# Altium schematic symbol library Mechanical_Old.SchLib: 117 symbols
Pins are listed as number, name and electrical type; pins without a type are passive.

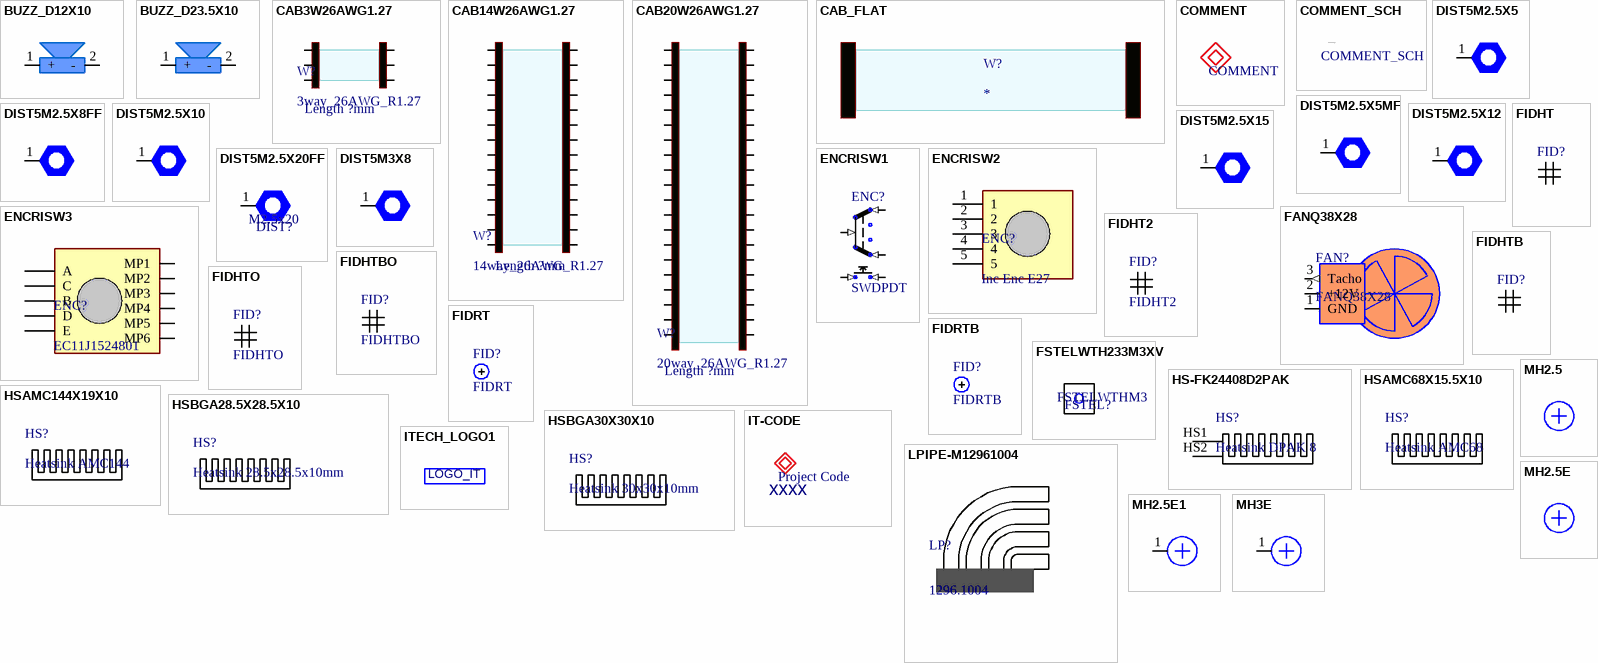
[diagram p0: symbols BUZZ_D12X10 to MH3E]

## BUZZ_D12X10
designator SPK?, comment BUZZER  (value not drawn)
Buzzer D12x10mm 5V; Manufacturer: Multicomp, Farnell; Manufacturer No: EMX-7T05SP, 1193323; Comment2: 5V, 30mA, 2.3KHz 85dB; Sort: 850; Tech: THTH; Package: BUZZ D12X10mm; Price: 1.8
footprint BUZZ12X10 (Buzzer D12x10mm)
pins: 1 +, 2 -

## BUZZ_D23.5X10
designator SPK?, comment BUZZER  (value not drawn)  (no BOM)
Signal Pad; Manufacturer: PRO SIGNAL, Farnell; Manufacturer No: ABI-003-RC, 1107581; Comment2: 12V, 15mA, 3.4KHz 95dB; Sort: 850; Tech: THTH; Package: BUZZ D23.5X10mm; Price: 0
footprint BUZZ23.5X10 (Buzzer D23.5x10mm)
pins: 1 +, 2 -

## CAB3W26AWG1.27
designator W?, comment 3way_26AWG_R1.27  Comment2: Length ?mm
Flat Cable 3Ways 26AWG R1.27; Sort: 610
pins: 1, 1, 2, 2, 3, 3

## CAB14W26AWG1.27
designator W?, comment 14way_26AWG_R1.27  Comment2: Length ?mm
Flat Cable 14Ways 26AWG R1.27; Sort: 610
pins: 1, 1, 2, 2, 3, 3, 4, 4, 5, 5, 6, 6, 7, 7, 8, 8, 9, 9, 10, 10, 11, 11, 12, 12, 13, 13, 14, 14

## CAB20W26AWG1.27
designator W?, comment 20way_26AWG_R1.27  Comment2: Length ?mm
Flat Cable 20Ways 26AWG R1.27; Sort: 610
pins: 1, 1, 2, 2, 3, 3, 4, 4, 5, 5, 6, 6, 7, 7, 8, 8, 9, 9, 10, 10, 11, 11, 12, 12, 13, 13, 14, 14, 15, 15, 16, 16, 17, 17, 18, 18, 19, 19, 20, 20

## CAB_FLAT
designator W?
Flat Cable; Sort: 610

## COMMENT
designator COMM?  (net tie)
Sort: 0; Tech: MECH; Price: 0

## COMMENT_SCH
designator COMM?  (no BOM)
Sort: 0; Tech: MECH; Price: 0

## DIST5M2.5X5
designator DIST?, comment M2.5X5mm  (value not drawn)
Hex Standoff SW5mm M2.5x5mm brass nickeled; Sort: 800; Tech: MECH; Price: 0
footprint DIST5XM2.5NPL (Standoff SW5mm M2.5 nonplated hole)
footprint DIST5XM2.5PL (Standoff SW5mm M2.5 plated hole)
footprint DIST5XM2.5 (Standoff SW5mm M2.5 no hole)
pins: 1

## DIST5M2.5X5MF
designator DIST?, comment M2.5X5mm MF  (value not drawn)
Hex Standoff SW5mm M2.5x5mm brass nickeled; Sort: 800; Tech: MECH; Price: 0
footprint DIST5XM2.5NPL (Standoff SW5mm M2.5 nonplated hole)
footprint DIST5XM2.5PL (Standoff SW5mm M2.5 plated hole)
footprint DIST5XM2.5 (Standoff SW5mm M2.5 no hole)
pins: 1

## DIST5M2.5X8FF
designator DIST?, comment M2.5X8mm FF  (value not drawn)
Hex Standoff SW5mm M2.5x8mm brass nickeled; Manufacturer: Burklin; Manufacturer No: 18H2422; Comment2: Female-Female; Sort: 800; Tech: MECH; Package: Dist M2.5x8mm; Price: 0
footprint DIST8XM2.5NPL (Standoff SW5mm M2.5 nonplated hole)
footprint DIST8XM2.5PL (Standoff SW5mm M2.5 plated hole)
footprint DIST8XM2.5 (Standoff SW5mm M2.5 no hole)
pins: 1

## DIST5M2.5X10
designator DIST?, comment M2.5X10mm  (value not drawn)
Hex Standoff SW5mm M2.5x10mm brass nickeled; Sort: 800; Tech: MECH; Price: 0
footprint DIST10XM2.5NPL (Standoff SW5mm M2.5 nonplated hole)
footprint DIST10XM2.5PL (Standoff SW5mm M2.5 plated hole)
footprint DIST10XM2.5 (Standoff SW5mm M2.5 no hole)
pins: 1

## DIST5M2.5X12
designator DIST?, comment M2.5X12mm  (value not drawn)
Hex Standoff SW5mm M2.5x10mm brass nickeled; Manufacturer: Burklin; Manufacturer No: 18H2426; Comment2: Female-Female; Sort: 800; Tech: MECH; Price: 0
footprint DIST10XM2.5NPL (Standoff SW5mm M2.5 nonplated hole)
footprint DIST10XM2.5PL (Standoff SW5mm M2.5 plated hole)
footprint DIST10XM2.5 (Standoff SW5mm M2.5 no hole)
pins: 1

## DIST5M2.5X15
designator DIST?, comment M2.5X15mm  (value not drawn)
Hex Standoff SW5mm M2.5x15mm brass nickeled; Manufacturer: Burklin; Manufacturer No: 18H2430; Comment2: Female-Female; Sort: 800; Tech: MECH; Price: 0
footprint DIST15XM2.5NPL (Standoff SW5mm M2.5 nonplated hole)
footprint DIST15XM2.5PL (Standoff SW5mm M2.5 plated hole)
footprint DIST15XM2.5 (Standoff SW5mm M2.5 no hole)
pins: 1

## DIST5M2.5X20FF
designator DIST?, comment M2.5x20
Hex standoff SW5mm M2.5x20mm brass nickeled fem-fem; Sort: 800; Tech: MECH; Package: Dist M2.5X20mm SW5 FF; Price: 0
footprint DIST20XM2.5 (Standoff SW5mm M2.5 no hole)
footprint DIST20XM2.5NPL (Standoff SW5mm M2.5 nonplated hole)
footprint DIST20XM2.5PL (Standoff SW5mm M2.5 plated hole)
pins: 1

## DIST5M3X8
designator DIST?, comment M3X8mm  (value not drawn)
Hex Standoff SW5.5mm M3x8mm brass nickeled; Sort: 800; Tech: MECH; Price: 0
footprint DIST8XM2.5NPL (Standoff SW5mm M2.5 nonplated hole)
footprint DIST8XM2.5PL (Standoff SW5mm M2.5 plated hole)
footprint DIST8XM3 (Standoff SW5.5mm M3 no hole)
pins: 1

## ENCRISW1
designator ENC?, comment SWDPDT
Switch short trip normaly open PCB vertical 6x6x3.5mm; Sort: 810; Tech: THDM; Price: 0
pins: 1 (in), 2 (in), 3 (in), 4 (in), 5 (in)

## ENCRISW2
designator ENC?, comment Inc Enc E27
Incremental Encoder Type E27 Vertical; Manufacturer: ELMA; Manufacturer No: E27-0-21101AL001; Sort: 800; Tech: MECH; Price: 0
footprint ENCRISW2 (Incermental Encoder Type E27)
pins: 1, 2, 3, 4, 5

## ENCRISW3
designator ENC?, comment EC11J1524801
Incremental Encoder Vertical; Manufacturer: Alps; Comment2: 30Ppr 30 Dent 0.5mmSW; Sort: 800; Tech: MECH; Manufacturer No: EC11J1524801; Package: Encoder SMD 12X18; Price: 0
footprint ENCRISW3 (Alps EC11J1524801 smd)
pins: A, B, C, D, E, MP1, MP2, MP3, MP4, MP5, MP6

## FANQ38X28
designator FAN?
Fan 38x38x28mm with tacho output; Manufacturer No: PMD1238PQB2-A; Comment2: 12V, 2.3W tacho; Sort: 800; Tech: THDM; Package: FANQ38X28; Price: 0
footprint FANQ38X28VPCB (FAN 38x38x28mm vertical mounted on pcb)
pins: 1 GND (power), 2 +12V (power), 3 Tacho (out)

## FIDHT
designator FID?  (net tie)
Fiducial top & bottom hash; Sort: 800; Tech: MECH; Price: 0
footprint FIDHT (Fiducial TOP hash)

## FIDHT2
designator FID?  (net tie)
Fiducial top & bottom hash; Sort: 800; Tech: MECH; Price: 0
footprint FIDHT2 (Fiducial TOP hash open mask small)

## FIDHTB
designator FID?  (net tie)
Fiducial top & bottom hash; Sort: 800; Tech: MECH; Price: 0
footprint FIDHTB (Fiducial TOP & BOTTOM hash)

## FIDHTBO
designator FID?  (net tie)
Fiducial top & bottom hash open mask; Sort: 800; Tech: MECH; Price: 0
footprint FIDHTBO (Fiducial TOP & BOTTOM hash open mask)

## FIDHTO
designator FID?  (net tie)
Fiducial top hash open mask; Sort: 800; Tech: MECH; Price: 0
footprint FIDHTO (Fiducial TOP hash open mask)

## FIDRT
designator FID?  (net tie)
Fiducial top round open mask; Sort: 800; Tech: MECH; Price: 0
footprint FIDRT50 (Fiducial TOP round 50mil)

## FIDRTB
designator FID?  (net tie)
Fiducial top & bottom round open mask; Sort: 800; Tech: MECH; Price: 0
footprint FIDRTB50 (Fiducial Top & Bottom round 50mil)

## FSTELWTH233M3XV
designator FSTEL?, comment FSTELWTHM3
Fastenig elements with thread 233 M3 vertical; Manufacturer: Burklin; Manufacturer No: 17H917; Comment2: A5.7 B5.9 H5.0 L 9.0; Sort: 800; Tech: MECH; Price: 0
footprint FSTELWTH233M3X2 (Fastening element with thread 233 M3)

## HS-FK24408D2PAK
designator HS?, comment Heatsink DPAK 8
Heatsink SMD for DPAK; Manufacturer: Fischer elektronik; Manufacturer No: FK244 08 D2 PAK; Comment2: 144x19x12mm Al; Sort: 0; Tech: MECH; Package: HS SMD 26x8x10mm R17.8mm; Price: 0
footprint HS-FK24408D2PAK (Heatsink DPAK 26x8x10mm R17.8mm)
pins: HS1, HS2

## HSAMC68X15.5X10
designator HS?, comment Heatsink AMC68
Heatsink 68x15.5x10mm Al black anodized; Manufacturer: Mali Elektronika; Manufacturer No: ITcode = 1336; Comment2: 68x15.5x10mm  Al - black anodized; Sort: 0; Tech: MECH; Code: 1336; Package: Heatsink 144x19x10; Price: 0
footprint HSAMC68X15.5X10 (Heatsink AMC 68x15.5x10mm Al profile)

## HSAMC144X19X10
designator HS?, comment Heatsink AMC144
Heatsink 144x19x10mm Al black anodized; Comment2: 144x19x12mm Al; Sort: 0; Tech: MECH; Package: Heatsink 144x19x10; Price: 0
footprint HSAMC144X19X10 (Heatsink AMC 144x19x10mm Al profile)

## HSBGA28.5X28.5X10
designator HS?, comment Heatsink 28.5x28.5x10mm
Heatsink for BGA 27X27mm with plastic push pins; Manufacturer: Aavid Thermalloy; Manufacturer No: 10-6327-01; Comment2: 144x19x12mm Al; Sort: 900; Tech: MECH; Package: Heatsink 28.5x28.5x10mm; Price: 2
footprint HSBGA28.5X28.5X10 (Heatsink BGA 28.5x28.5x10mm with push pins)

## HSBGA30X30X10
designator HS?, comment Heatsink 30x30x10mm
Heatsink for BGA 25X25mm with plastic push pins; Manufacturer: ATS; Manufacturer No: ATS-CPX025025010-165-C2-R0; Comment2: 30x30x10mm Al; Sort: 900; Tech: MECH; Package: Heatsink 30x30x10mm; Price: 2; Supplier: Digi-Key; Supplier No: ATS1515-ND
footprint HSBGA30X30X10 (Heatsink BGA 30x30x10mm with push pins)

## IT-CODE
designator CODE, comment Project Code  Project_IT-Code: xxxx  (net tie)
Sort: 0; Tech: DESC

## ITECH_LOGO1
designator logoit, comment ITECH_LOGO  (value not drawn)  (no BOM)
Instrumentation Technologies Logo; Sort: 800; Tech: MECH; Price: 0
footprint ITECH_LOGO (logotip)
footprint ITECH_LOGO2 (logotip in Solder Mask)
footprint ITECH_LOGO3 (logotip in Silk Screen)
text: LOGO_IT

## LPIPE-M12961004
designator LP?, comment 1296.1004
Light Pipe 4x smd led right angle front plate; Manufacturer: Mentor, Farnell; Manufacturer No: 1296.1004, 4327974; Sort: 830; Tech: MECH; Package: Lpipe 4xsmdV; Price: 1,9
footprint LPIPE-M12961004 (Light pipe 4x vertical)
pins: 1 hidden

## MH2.5
designator MH  (value not drawn)  (graphical)
Mounting hole 2.6mm; Sort: 800; Tech: MECH; Price: 0
footprint MH2.5VD (Montazna luknja 2.5mm vijak zgoraj distanènik spodaj)
footprint MH2.5NV (Montazna luknja 2.5mm none/vijak spodaj)
footprint MH2.5SCRPL_BPL1 (Mounting Hole 2.6mm; Screw 2.5mm DIN7985A plated hole)

## MH2.5E
designator MH  (value not drawn)  (no BOM)
Mounting hole 2.6mm electrical; Sort: 800; Tech: MECH; Price: 0
footprint MH2.5VD (Montazna luknja 2.5mm vijak zgoraj distanènik spodaj)
footprint MH2.5NV (Montazna luknja 2.5mm none/vijak spodaj)
footprint MH2.5SCRPL_BPL1 (Mounting Hole 2.6mm; Screw 2.5mm DIN7985A plated hole)

## MH2.5E1
designator MH  (value not drawn)  (no BOM)
Mounting hole 2.6mm electrical; Sort: 800; Tech: MECH; Price: 0
footprint MH2.5PL (Mounting Hole 2.6mm; plated hole)
pins: 1

## MH3E
designator MH?, comment MH3  (value not drawn)  (no BOM)
Mounting hole 3.2mm electrical; Sort: 800; Tech: MECH; Price: 0
footprint MH3PL (Montazna luknja 3mm vijak/dist)
pins: 1

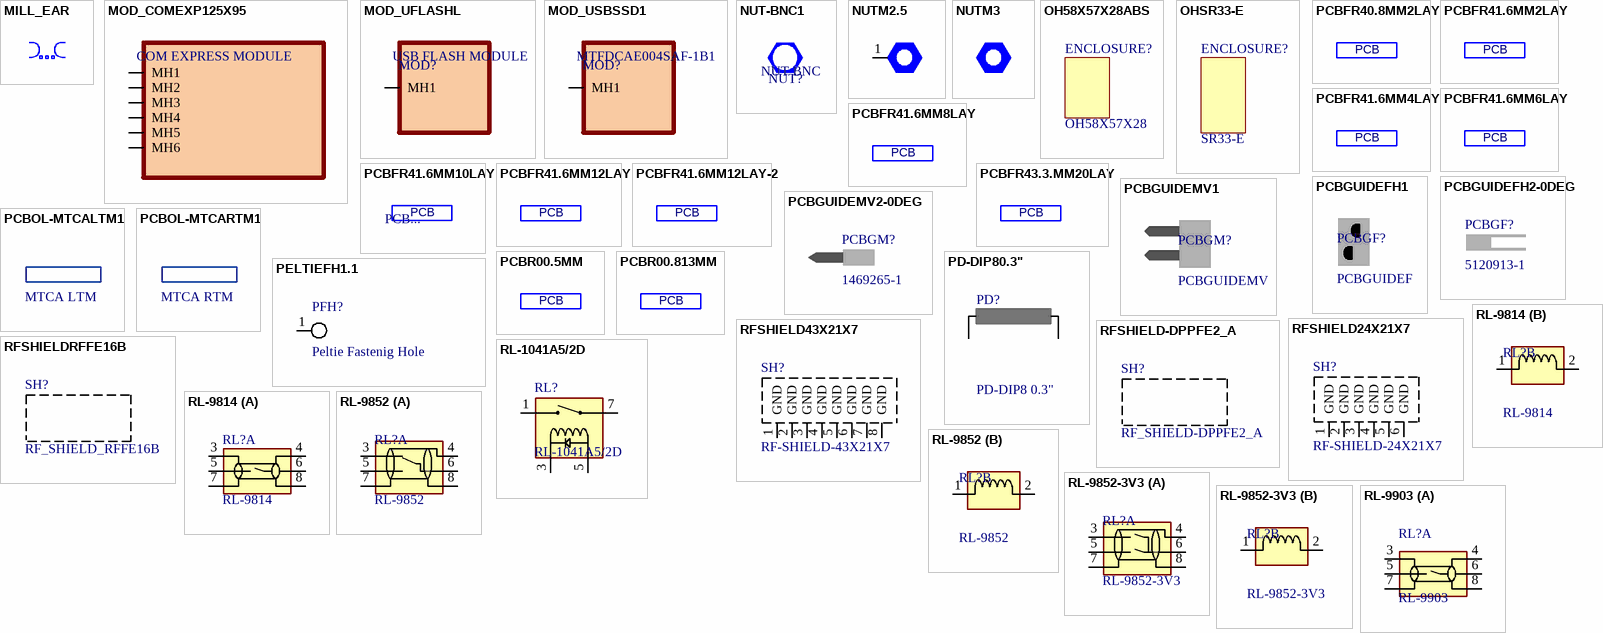
[diagram p1: symbols MILL_EAR to RL-9903]

## MILL_EAR
designator ME  (no BOM)
Milling ear 2.0mm; Comment2: 2 x R2.0mm; Sort: 800; Tech: MECH; Price: 0
footprint MILLEAR2D (Milling ear for PCB cut dual side holes)
footprint MILLEAR2S (Milling ear for PCB cut)
footprint MILLEAR2S-NOH (Milling ear for PCB cut without holes)

## MOD_COMEXP125X95
designator MOD?, comment COM EXPRESS MODULE
Com Express Module 125x95mm double connector; Manufacturer: Congatec; Manufacturer No: B945; Sort: 0; Tech: MECH; Comment2: 125x95mm; Price: 0
footprint LAYNUM8 (PCB 1.6mm 8layer 2GND no POW)
footprint MODCOMEXP125X95 (Com Express module 125x95mm)
footprint MODCOMEXP125X95-BODY (Com Express module 125x95mm with mech. body)
pins: MH1, MH2, MH3, MH4, MH5, MH6

## MOD_UFLASHL
designator MOD?, comment USB FLASH MODULE
USB Flash Module 36.9x26.6mm 9pin connector; Manufacturer: Intel; Manufacturer No: SSDUSMxxxxxx; Sort: 900; Tech: MECH; Comment2: 36.9x26.6mm; Price: 0
footprint MOD-UFLASHL (USB flash  SSD low profile R2mm 36.9x26.6mm)
pins: MH1

## MOD_USBSSD1
designator MOD?, comment MTFDCAE004SAF-1B1
USB Flash Module 36.9x26.6mm 10pin R2.54mm; Manufacturer: Micron; Comment2: 4GB, USB2.0, 5Vcc; Sort: 900; Tech: MECH; Manufacturer No: MTFDCAE004SAF-1B1; Package: Modul 36.9x26.6x9.6mm; Price: 0
footprint MOD-USBSSD1 (USB flash  SSD low profile R2.54mm 36.9x26.6mm)
pins: MH1

## NUT-BNC1
designator NUT?, comment NUT BNC  (net tie)
BNC conn. Hex Nut 1/2-28 Steel Zinc plated; Manufacturer: Tyco, Farnell; Manufacturer No: 1-1634816-0, 1020969; Sort: 800; Tech: MECH; Price: 0

## NUTM2.5
designator NUT?, comment M2.5  (value not drawn)
Hex Nut M2.5 H2mm Steel Zinc plated; Comment2: DIN934; Sort: 800; Tech: MECH; Price: 0
footprint NUTM2.5 (Nut M2.5 NO HOLE)
footprint NUTM2.5PL (Nut M2.5 plated hole)
footprint NUTM2.5NPL (Nut M2.5 NON plated hole)
pins: 1

## NUTM3
designator NUT?, comment M3  (value not drawn)
Hex Nut M3 H2.4mm Steel Zinc plated; Comment2: DIN934; Sort: 800; Tech: MECH; Price: 0
footprint DIST5XM2.5NPL (Standoff SW5mm M2.5 nonplated hole)
footprint DIST5XM2.5PL (Standoff SW5mm M2.5 plated hole)
footprint M3NUT (M3 nut)

## OH58X57X28ABS
designator ENCLOSURE?, comment OH58X57X28
Switch short trip normaly open PCB vertical 6x6x3.5mm; Manufacturer: HTE; Manufacturer No: Ohisje ABS 50/36; Sort: 810; Tech: THDM; Price: 0
footprint OH58X57X28 (OH58X57X28 ABS)

## OHSR33-E
designator ENCLOSURE?, comment SR33-E
Switch short trip normaly open PCB vertical 6x6x3.5mm; Manufacturer: Teco; Manufacturer No: SR33-E9; Sort: 810; Tech: THDM; Price: 0
footprint OH-SR33-E

## PCBFR40.8MM2LAY
designator PCB, comment PCB...  (value not drawn)
Printed Circuit Board 2 layer; Comment2: FR4 0.8mm 35um Cu; Sort: 0; Tech: MECH; Price: 0

## PCBFR41.6MM2LAY
designator PCB, comment PCB...  (value not drawn)
Printed Circuit Board 2 layer; Comment2: FR4 1.6mm 35um Cu; Sort: 0; Tech: MECH; Price: 0
footprint LAYNUM2

## PCBFR41.6MM4LAY
designator PCB, comment PCB...  (value not drawn)
Printed Circuit Board 4 layer; Comment2: FR4 1.6mm 35um Cu; Sort: 0; Tech: MECH; Price: 0
footprint LAYNUM4

## PCBFR41.6MM6LAY
designator PCB, comment PCB...  (value not drawn)
Printed Circuit Board 6 layer; Comment2: FR4 1.6mm 35um Cu; Sort: 0; Tech: MECH; Price: 0
footprint LAYNUM6

## PCBFR41.6MM8LAY
designator PCB, comment PCB...  (value not drawn)
Printed Circuit Board 8 layer; Comment2: FR4 1.6mm 35um Cu; Sort: 0; Tech: MECH; Price: 0
footprint LAYNUM8 (PCB 1.6mm 8layer 2GND no POW)

## PCBFR41.6MM10LAY
designator PCB, comment PCB...
Printed Circuit Board 10 layer; Comment2: FR4 1.6mm 18um Cu; Sort: 0; Tech: MECH; Price: 0
footprint LAYNUM10-1 (PCB 1.6mm 10 layer SGSSPPSSGS)

## PCBFR41.6MM12LAY
designator PCB, comment PCB...  (value not drawn)
Printed Circuit Board 12 layer; Comment2: FR4 1.6mm 35um Cu; Sort: 0; Tech: MECH; Price: 0
footprint LAYNUM12 (PCB 1.6mm 12 layer 4GND 2 POW)

## PCBFR41.6MM12LAY-2
designator PCB, comment PCB...  (value not drawn)
Printed Circuit Board 12 layer; Comment2: FR4 1.6mm 35um Cu; Sort: 0; Tech: MECH; Price: 0
footprint LAYNUM12-2 (PCB 1.6mm 12 layer SGSGSPPSGSGS)

## PCBFR43.3.MM20LAY
designator PCB, comment PCB...  (value not drawn)
Printed Circuit Board 20 layer; Comment2: FR4 3.2mm 55um Cu; Sort: 0; Tech: MECH; Price: 0
footprint LAYNUM20 (PCB 1.6mm 20 layer)

## PCBGUIDEFH1
designator PCBGF?, comment PCBGUIDEF
PCB guide female horizontal; Manufacturer: Tyco; Manufacturer No: 1-1469373-1; Sort: 800; Tech: MECH; Price: 0
footprint PCBGUIDEFH1 (PCB guide female horizontal)

## PCBGUIDEFH2-0DEG
designator PCBGF?, comment 5120913-1
PCB guide female horizontal; Manufacturer: Tyco; Comment2: 0deg; Sort: 800; Tech: MECH; Manufacturer No: 5120913-1; Price: 0
footprint PCBGUIDEFH2 (PCB guide female horizontal one pin)

## PCBGUIDEMV1
designator PCBGM?, comment PCBGUIDEMV
PCB guide male vertical; Manufacturer: Tyco; Manufacturer No: 1-1469387-1; Sort: 800; Tech: MECH; Price: 0
footprint PCBGUIDEMH1 (PCB guide male vertical)

## PCBGUIDEMV2-0DEG
designator PCBGM?, comment 1469265-1
PCB guide male horizontal 1pin; Manufacturer: Tyco; Comment2: 0deg; Sort: 800; Tech: MECH; Manufacturer No: 1469265-1; Package: Pcb guide 0 deg; Price: 0
footprint PCBGUIDEMH2 (PCB guide male horizontal one pin)

## PCBOL-MTCALTM1
designator ?, comment MTCA LTM  (no BOM)
PCB board outline for LTM module; Sort: 800; Tech: MECH; Price: 0
footprint PCBOL-AMCLTM1 (AMC LTM module outline)

## PCBOL-MTCARTM1
designator ?, comment MTCA RTM  (no BOM)
PCB board outline for RTM module; Sort: 800; Tech: MECH; Price: 0
footprint PCBOL-AMCRTM1 (AMC RTM module outline)

## PCBR00.5MM
designator PCB, comment PCB...  (value not drawn)
Printed Circuit Board 2 layer; Comment2: Rogers 4003 0.5mm 35um Cu; Sort: 0; Tech: MECH; Price: 0

## PCBR00.813MM
designator PCB, comment PCB...  (value not drawn)
Printed Circuit Board 4 layer; Comment2: Rogers 4003C 0.813mm 18um Cu; Sort: 0; Tech: MECH; Price: 0
footprint LAYNUM4

## PD-DIP80.3"
designator PD?, comment PD-DIP8 0.3"  (net tie)
Socket for DIP8 0.3" wide R2.54mm; Manufacturer: MULTICOMP, Farnell; Manufacturer No: 2227MC-08-03-18-F1, 1103844; Sort: 810; Tech: THDM; Package: Socket DIP8; Price: 0
footprint PD8 (DIL Socket 8pin E=7.62mm R2.54 mm)

## PELTIEFH1.1
designator PFH?, comment Peltie Fastenig Hole
Peltie Fastenig Hole 1.1mm; Sort: 800; Tech: MECH; Comment2: Peltie Fastenig Hole 1.1; Price: 0
footprint PFH1 (Peltie Fastenig Hole 1.1mm)
pins: 1 hidden, 1

## RFSHIELD24X21X7
designator SH?, comment RF-SHIELD-24X21X7
RFshield 24x21x7mm; nickeled brass; Sort: 820; Tech: THDM; Price: 0
footprint RFSHIELD24X21 (RF shield 24x21x7mm 6 solder pin)
pins: 1 GND, 2 GND, 3 GND, 4 GND, 5 GND, 6 GND

## RFSHIELD43X21X7
designator SH?, comment RF-SHIELD-43X21X7
RFshield 43x21x7mm; nickeled brass; Sort: 820; Tech: THDM; Price: 0
footprint Model Name (Footprint not found)
footprint RFSHIELD43X21 (RF shield 42.5x21x7mm 8 solder pin)
pins: 1 GND, 2 GND, 3 GND, 4 GND, 5 GND, 6 GND, 7 GND, 8 GND

## RFSHIELD-DPPFE2_A
designator SH?, comment RF_SHIELD-DPPFE2_A  (mechanical)
RFshield 148x117x6mm Al  white chromated; Manufacturer: Mali sp.; Manufacturer No: SHIELD DPPFE2_A; Sort: 820; Tech: THDM; Price: 0

## RFSHIELDRFFE16B
designator SH?, comment RF_SHIELD_RFFE16B
RFshield 148x117x6mm Al  white chromated; Manufacturer: Mali sp.; Manufacturer No: SHIELD RFFE16; Sort: 820; Tech: THDM; Price: 0
footprint SHRFFE16B (Shield for RFFE16 version B & B1)

## RL-1041A5/2D
designator RL?
High Voltage SIL reed relay 1 form A; Manufacturer: Pickering; Sort: 820; Tech: THDM; Manufacturer No: 104 1A 5 / 2D; Package: SIL4; Price: 0
footprint SIL4-FORM1A (SIL4 Package for form 1A for reed relay)
pins: 1 IN, 3 IN, 5 IN, 7 IN

## RL-9814
designator RL?
Surface Mount Reed Relays Gull-Lead 3V3 (Form A); Manufacturer: Coto; Sort: 820; Tech: SMD; Comment2: 3V3; Manufacturer No: 9814-03-00; Price: 0
footprint RL-9814 (Reed Relay 9814 series)
part A pins: 3, 4 OUT, 5, 6 IN, 7 3, 8 OUT
part B pins: 1 IN, 2 IN

## RL-9852
designator RL?
Surface Mount Reed Relays J-Lead 5V (Form C); Manufacturer: Coto; Sort: 820; Tech: SMD; Comment2: 5V; Manufacturer No: 9852-05-20; Price: 0
footprint RL-9852J
part A pins: 3, 4 OUT, 5, 6 IN, 7 3, 8 OUT
part B pins: 1 IN, 2 IN

## RL-9852-3V3
designator RL?
Surface Mount Reed Relays Gull-Lead 3V3 (Form C); Manufacturer: Coto; Sort: 820; Tech: SMD; Comment2: 3V3; Manufacturer No: 9852-03-00; Price: 0
footprint RL-9852J
part A pins: 3, 4 OUT, 5, 6 IN, 7 3, 8 OUT
part B pins: 1 IN, 2 IN

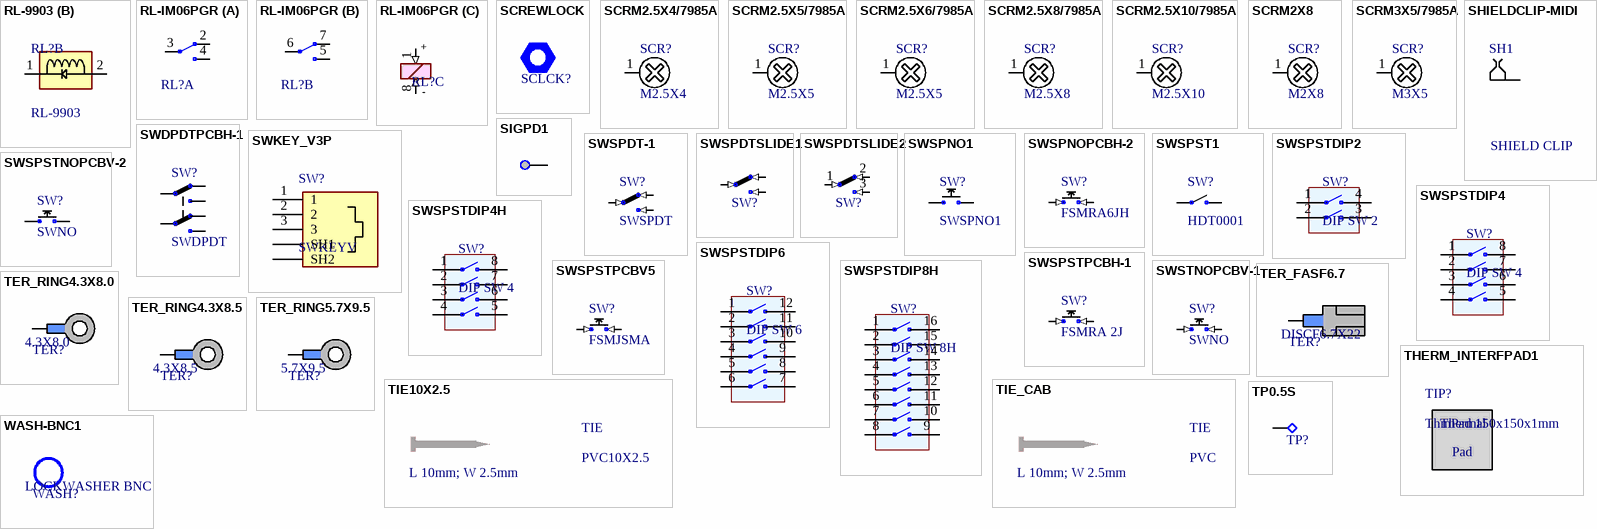
[diagram p2: symbols RL-9903 to WASH-BNC1]

## RL-9903
designator RL?
Surface Mount Reed Relays J-Lead 5V; Manufacturer: Coto; Sort: 820; Tech: SMD; Comment2: 5V; Manufacturer No: 9903-05-20; Price: 0
footprint RL-9902J (RL9902  package with magnetic shield and j-leads for reed relay, SMD)
part A pins: 3, 4 OUT, 5, 6 IN, 7 3, 8 OUT
part B pins: 1 IN, 2 IN

## RL-IM06PGR
designator RL?, comment IM06PGR  (value not drawn)
Relay DPDT10x6x5.7mm SMD; Manufacturer: TE Connectivity, Farnell; Manufacturer No: IM06PGR, 1770595; Comment2: 12Vdc, 1.03kR 140mW 2A 250V; Sort: 800; Tech: SMDR; Package: Relay 10x6x5.7mm SMD; Price: 3,7
footprint RL-IM06PRG (Relay IM06PRG 10x6x5.7mm SMD)
part A pins: 2, 3, 4
part B pins: 5, 6, 7
part C pins: 1 (in), 8 2 (in)
part C text: +; -

## SCREWLOCK
designator SCLCK?, comment 4-40UNC8MM  (value not drawn)
SCREWLOCK, D, FEMALE, 8MM, PK2; Manufacturer: Multicomp, Farnell; Manufacturer No: 257795, 1099010; Comment2: 4-40 UNC 8MM Nickel plating; Sort: 800; Tech: MECH; Price: 0

## SCRM2.5X4/7985A
designator SCR?, comment M2.5X4
Screw M2.5x4mm  X Head; Comment2: DIN7985A; Sort: 800; Tech: MECH; Price: 0
footprint SCRM2.5 (M2.5mm DIN7985A no hole (head only) D2.7mm)
footprint SCRM2.5PL (M2.5mm DIN7985A non plated hole (head only) D2.7mm)
footprint SCRM2.5NPL (M2.5mm DIN7985A non plated hole (head only) D2.7mm)
pins: 1 hidden, 1

## SCRM2.5X5/7985A
designator SCR?, comment M2.5X5
Screw M2.5x5mm  X Head; Comment2: DIN7985A; Sort: 800; Tech: MECH; Price: 0
footprint SCRM2.5 (M2.5mm DIN7985A no hole (head only) D2.7mm)
footprint SCRM2.5PL (M2.5mm DIN7985A non plated hole (head only) D2.7mm)
footprint SCRM2.5NPL (M2.5mm DIN7985A non plated hole (head only) D2.7mm)
pins: 1 hidden, 1

## SCRM2.5X6/7985A
designator SCR?, comment M2.5X5
Screw M2.5x6mm  X Head; Comment2: DIN7985A; Sort: 800; Tech: MECH; Price: 0
footprint SCRM2.5 (M2.5mm DIN7985A no hole (head only) D2.7mm)
footprint SCRM2.5PL (M2.5mm DIN7985A non plated hole (head only) D2.7mm)
footprint SCRM2.5NPL (M2.5mm DIN7985A non plated hole (head only) D2.7mm)
pins: 1 hidden, 1

## SCRM2.5X8/7985A
designator SCR?, comment M2.5X8
Screw M2.5x8mm  X Head; Comment2: DIN7985A; Sort: 800; Tech: MECH; Price: 0
footprint SCRM2.5 (M2.5mm DIN7985A no hole (head only) D2.7mm)
footprint SCRM2.5PL (M2.5mm DIN7985A non plated hole (head only) D2.7mm)
footprint SCRM2.5NPL (M2.5mm DIN7985A non plated hole (head only) D2.7mm)
pins: 1 hidden, 1

## SCRM2.5X10/7985A
designator SCR?, comment M2.5X10
Screw M2.5x10mm  X Head; Comment2: DIN7985A; Sort: 800; Tech: MECH; Price: 0
footprint SCRM2.5 (M2.5mm DIN7985A no hole (head only) D2.7mm)
footprint SCRM2.5PL (M2.5mm DIN7985A non plated hole (head only) D2.7mm)
footprint SCRM2.5NPL (M2.5mm DIN7985A non plated hole (head only) D2.7mm)
pins: 1 hidden, 1

## SCRM2X8
designator SCR?, comment M2X8
Screw M2x8mm  X Head; Comment2: DIN7985A; Sort: 800; Tech: MECH; Price: 0
footprint SCRM2PL (M2mm plated hole D22mm)
pins: 1 hidden, 1

## SCRM3X5/7985A
designator SCR?, comment M3X5
Screw M3x5mm  X Head; Comment2: DIN7985A; Sort: 800; Tech: MECH; Price: 0
footprint SCRM3 (M3mm DIN7985A no hole (head only))
footprint SCRM3NPL (M3mm DIN7985A non plated hole D3.2mm)
footprint SCRM3PL (M3mm DIN7985A plated hole D3.2mm)
pins: 1 hidden, 1

## SHIELDCLIP-MIDI
designator SH1, comment SHIELD CLIP
RFI Shield Clips; Manufacturer: Harwin, Farnell; Manufacturer No: S1711-46R, 1378893; Sort: 820; Tech: THDM; Price: 0
footprint SHILEDCLIP-MIDI (RFI Shield Clip 0.3 Shield Thickness)
pins: MH1 0

## SIGPD1
designator SIGPD?  (value not drawn)  (no BOM)
Signal Pad; Sort: 800; Tech: MECH; Price: 0
footprint SIGPD1 (Signal Pad 0.8mm/2.0mm)
pins: MH1

## SWDPDTPCBH-1
designator SW?, comment SWDPDT
Switch short trip normaly open PCB vertical 6x6x3.5mm; Sort: 800; Tech: THDM; Price: 0
pins: 1, 2, 3, 4, 5, 6

## SWKEY_V3P
designator SW?, comment SWKEYV
Switch Key vertical 3 pin R2.54; Manufacturer: Burklin; Manufacturer No: 12G1513; Sort: 800; Tech: THDM; Price: 0
footprint SWKEY_V (Switch Key vertical)
pins: 1, 2, 3, ?1 SH1, ?2 SH2

## SWSPDT-1
designator SW?, comment SWSPDT  (net tie)
Switch short trip normaly open PCB vertical 6x6x3.5mm; Sort: 800; Tech: THDM; Price: 0
pins: 1 (in), 2 (in), 3 (in)

## SWSPDTSLIDE1
designator SW?, comment 22591811  (value not drawn)
Switch slide PCB 10x11x6 mm; Manufacturer: Mentor; Sort: 800; Tech: THDM; Manufacturer No: 22591811; Price: 0
footprint SWSLIDE1 (SLIDE SWITCH 10X11X6mm)
pins: 1 (in), 2 (in), 3 (in)

## SWSPDTSLIDE2
designator SW?, comment 09-03290-01  (value not drawn)
Switch slide PCB SPDT 10x2.5x5.8mm; Manufacturer: EAO, Farnell; Manufacturer No: 09-03290-01, 674345; Comment2: 12V 0.5A 22mR; Sort: 650; Tech: THDM; Package: Switch slide pcb vert; Price: 1.22
footprint SWSLIDE-EAO_09-01 (SLIDE SWITCH 10X11X6mm)
pins: 1 (in), 2 (in), 3 (in)

## SWSPNO1
designator SW?
Switch SPNO key horizontal; Manufacturer: Marquardt, Burklin; Manufacturer No: 6450.0005, 13G5001; Comment2: 28V 100mA 120mR 1.6mm; Sort: 800; Tech: THDM; Price: 0
footprint SWSPNO1 (Switch single pole normally open key)
pins: 1, 2

## SWSPNOPCBH-2
designator SW?, comment FSMRA6JH
Switch short trip normaly open PCB horizontal 7.86x7x7mm; Manufacturer: Tyco, Farnell; Manufacturer No: 1-1825027-7, 1555989; Comment2: 24V, 50mA; Sort: 800; Tech: THDM; Price: 0
footprint SWFSMRA6JH (Side switch momentary)
pins: 1 (in), 2 (in)

## SWSPST1
designator SW?, comment HDT0001
Switch SPST pcb vertical; Manufacturer: ITT, Farnell; Manufacturer No: HDT0001, 9575154; Comment2: 5V 1mA; Sort: 800; Tech: SMDR; Price: 0
footprint SWHDT0001 (End switch for AMC card)
pins: 1, 2, 3, 4

## SWSPSTDIP2
designator SW?, comment DIP SW 2
Dip Switch PCB vertical (3.77x4.5x1.5)mm; Manufacturer: Multicomp, Farnell; Manufacturer No: MCDHN-02F-T-V, 1605478; Sort: 800; Tech: THDM; Price: 0
footprint DIPSW2V (Dip switch 2 position vertical R1.27mm SMD)
pins: 1, 2, 3, 4

## SWSPSTDIP4
designator SW?, comment DIP SW 4
Dip Switch PCB vertical; Sort: 800; Tech: THDM; Price: 0
footprint DIPSW4V (Dip switch 4position vertical R2.54mm)
pins: 1, 2, 3, 4, 5, 6, 7, 8

## SWSPSTDIP4H
designator SW?, comment DIP SW 4
Dip Switch 4 PCB horizontal; Manufacturer: Farnell, Multicomp; Manufacturer No: 9471545, MCDA04; Sort: 800; Tech: THDM; Package: DipSW4hor; Price: 0
footprint DIPSW4H (Dip switch 4 position horizontal R2.54mm)
pins: 1, 2, 3, 4, 5, 6, 7, 8

## SWSPSTDIP6
designator SW?, comment DIP SW 6
Dip Switch PCB vertical; Sort: 800; Tech: THDM; Price: 0
footprint DIPSW6V (Dip switch 6 position vertical R2.54mm)
pins: 1, 2, 3, 4, 5, 6, 7, 8, 9, 10, 11, 12

## SWSPSTDIP8H
designator SW?, comment DIP SW 8H
Dip Switch 8 pos. PCB horizontal; Manufacturer: Burklin; Manufacturer No: 17G592; Sort: 800; Tech: THDW; Package: Dip switch 8 pin hor.; Price: 1.5
footprint DIPSW8H (Dip switch 8 position horizontal R2.54mm)
pins: 1, 2, 3, 4, 5, 6, 7, 8, 9, 10, 11, 12, 13, 14, 15, 16

## SWSPSTNOPCBV-2
designator SW?, comment SWNO
Switch short trip normaly open PCB vertical; Manufacturer: EAO; Manufacturer No: K96-901.01BLK; Sort: 800; Tech: THDM; Price: 0
footprint SW096BLK (Switch eao096 BLK)
pins: 1, 4

## SWSPSTPCBH-1
designator SW?, comment FSMRA 2J
Switch short trip normaly open PCB horizontal 7.86x7x7mm; Manufacturer: Tyco; Manufacturer No: FSMRA 2J 8-1437565-5; Sort: 800; Tech: THDM; Price: 0
footprint SWFSMRA2J
pins: 1 (in), 2 (in)

## SWSPSTPCBV5
designator SW?, comment FSMJSMA
Switch short trip normaly open PCB horizontal 7.86x7x7mm; Sort: 800; Tech: THDM; Price: 0
footprint SWFSMJSMA
pins: 1 (in), 2 (in)

## SWSTNOPCBV-1
designator SW?, comment SWNO
Switch short trip normaly open PCB vertical 6x6x3.5mm; Sort: 800; Tech: THDM; Price: 0
pins: 1 (in), 2 (in)

## TER_FASF6.7
designator TER?, comment DISCF6.7X22
Disconnect Female Terminal 6.7mm; Comment2: 2.63-6.64mm2 (12-10AWG); Sort: 800; Tech: MECH; Price: 0
pins: 1

## TER_RING4.3X8.0
designator TER?, comment 4.3X8.0
Terminal Ring 4.3X8.0mm; Comment2: 1.04-2.63mm2 (17-13AWG); Sort: 800; Tech: MECH; Price: 0
pins: 1

## TER_RING4.3X8.5
designator TER?, comment 4.3X8.5
Terminal Ring 4.3X8.5mm; Comment2: 1.04-2.63mm2 (17-13AWG); Sort: 800; Tech: MECH; Price: 0
pins: 1

## TER_RING5.7X9.5
designator TER?, comment 5.7X9.5
Terminal Ring 5.7X9.5mm; Comment2: 2.63-6.64mm2 (12-10AWG); Sort: 800; Tech: MECH; Price: 0
pins: 1

## THERM_INTERFPAD1
designator TIP?, comment ThmPad 150x150x1mm
High Performance Thermal Interface Material 150x150x1mm; Manufacturer: t-Global Technology; Manufacturer No: TG4040S-150-150-1.0-0; Sort: 900; Tech: MECH; Comment2: 150x150x1mm; Package: Sheet; Price: 25.59; Supplier: Digi-Key; Supplier No: 1168-1978-ND
footprint THERM_PAD1mm (Thermal Pad 15x15x1mm)
text: Thermal; Pad

## TIE10X2.5
designator TIE, comment PVC10X2.5  Comment2: L 10mm; W 2.5mm
Cable Tie Length 10mm Width 2.5mm

## TIE_CAB
designator TIE, comment PVC  Comment2: L 10mm; W 2.5mm
Cable Tie Length 10mm Width 2.5mm

## TP0.5S
designator TP?, comment TP 0.5mm  (value not drawn)  (no BOM)
Test Point 0.5mm Slim; Sort: 610; Tech: THDW; Price: 0
footprint TPH0.5S (Test point TH 0.5mm slim)
pins: 1

## WASH-BNC1
designator WASH?, comment LOCKWASHER BNC  (net tie)
Lockwasher BNC steel Zinc plated; Manufacturer: Tyco, Farnell; Manufacturer No: 1-1634817-0, 1020970; Sort: 800; Tech: MECH; Package: Lockwasher BNC; Price: 0

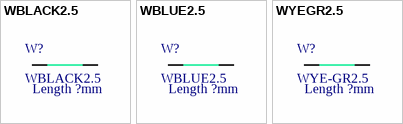
[diagram p3: symbols WBLACK2.5 to WYEGR2.5]

## WBLACK2.5
designator W?  Comment2: Length ?mm
Wire Black 2.5mm2; Sort: 610
pins: 1, 2

## WBLUE2.5
designator W?  Comment2: Length ?mm
Wire Blue 2.5mm2; Sort: 610
pins: 1, 2

## WYEGR2.5
designator W?, comment WYE-GR2.5  Comment2: Length ?mm
Wire Yellow-Green 2.5mm2; Sort: 610
pins: 1, 2